# Altium footprint library lan_control.PcbLib: 23 footprints (part 2 of 2)
Each footprint in its own frame and in the unit in brackets; x right, y up, seen from the top. Pads: shape width x height; smd on the part's side, far side on the other; paste and mask are expansions set on the pad; w line width, h text height; cw(c..) or ccw(c..) is an arc to the next point about the centre after c.
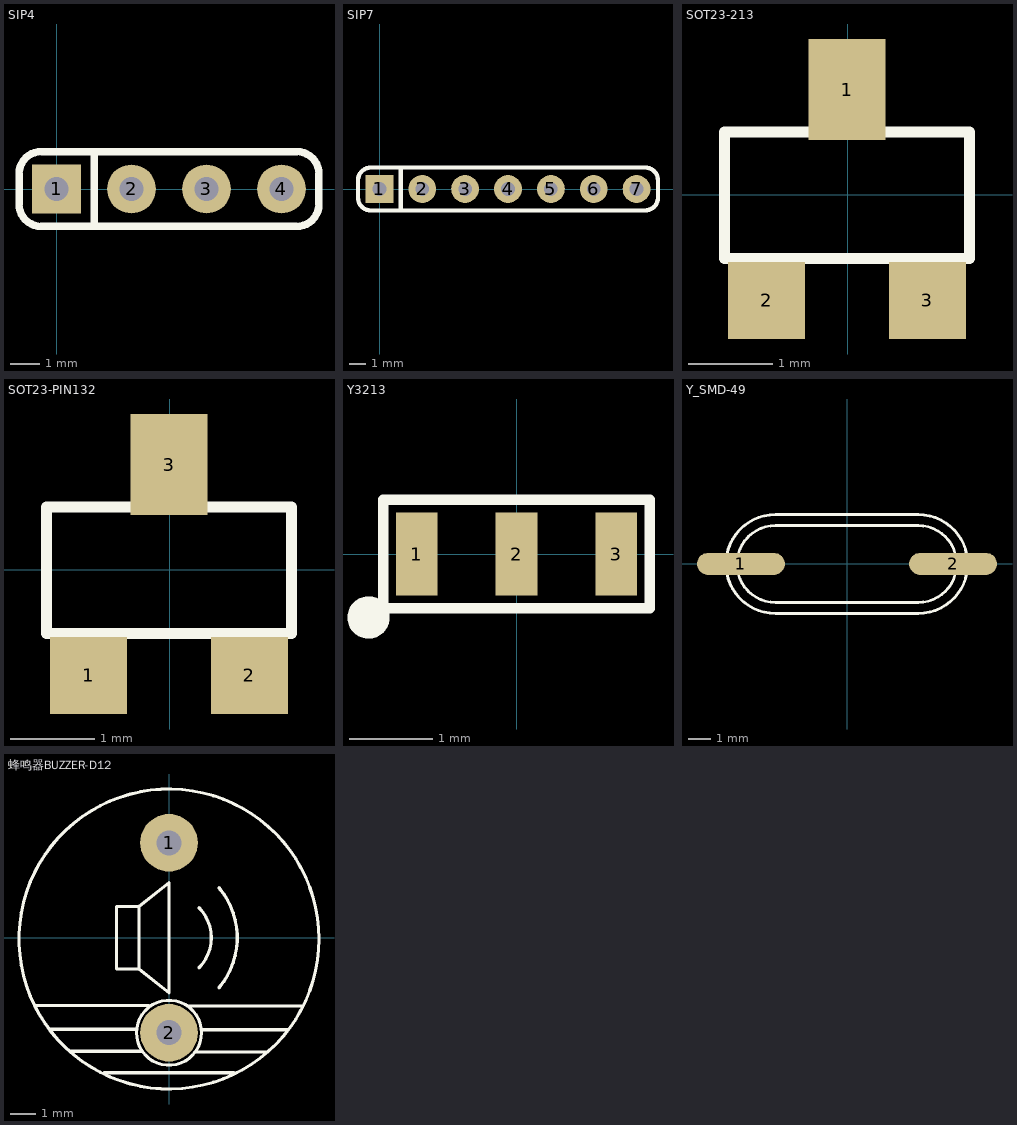
[diagram p1: the footprints below, top view; thin cyan lines are the x and y axes]

## SIP4 [mil]
height 236.22
pads (4):
  rect 65x65 hole 32: 1(-0.23,0.07)
  round 65 hole 32: 2(99.77,0.07) 3(199.77,0.07) 4(299.77,0.07)
Top Overlay:
  lines w10: 49.77,-49.93 49.77,50.07 ; -50.23,-19.79 ccw(c-20.37,-20.07) -20.65,-49.93 319.63,-49.93 ccw(c319.92,-20.07) 349.77,-20.36 349.77,19.92 ccw(c319.92,20.21) 320.2,50.07 -20.08,50.07 ccw(c-20.37,20.21) -50.23,20.49 -50.23,-19.79
3D body "1001-4.STEP": height 336.22, standoff -118.11, extent -50.22,-49.93 349.78,50.07

## SIP7 [mil]
height 236.22
pads (7):
  rect 65x65 hole 32: 1(-0.23,0.07)
  round 65 hole 32: 2(99.77,0.07) 3(199.77,0.07) 4(299.77,0.07) 5(399.77,0.07) 6(499.77,0.07) 7(599.77,0.07)
Top Overlay:
  lines w10: 49.77,-49.93 49.77,50.07 ; -50.23,-19.79 ccw(c-20.37,-20.07) -20.65,-49.93 619.63,-49.93 ccw(c619.92,-20.07) 649.77,-20.36 649.77,19.92 ccw(c619.92,20.21) 620.2,50.07 -20.08,50.07 ccw(c-20.37,20.21) -50.23,20.49 -50.23,-19.79
3D body "1001-7.STEP": height 336.22, standoff -118.11, extent -50.22,-49.93 649.78,50.07

## SOT23-213 [mil]
height 21.65
pads (3):
  rect 36x47.24 smd: 1(-0.36,48.99)
  rect 36x36 smd: 2(-37.86,-49.43) 3(37.14,-49.43)
Top Overlay:
  lines w5.12: -57.45,-29.75 56.73,-29.75 56.73,29.31 -57.45,29.31 -57.45,-29.75
3D body "SOT-23-3.STEP": height 47.24, standoff 0, extent -57.08,-55.11 57.1,55.13

## SOT23-PIN132 [mil]
height 236.22
pads (3):
  rect 36x36 smd: 1(-37.86,-49.43) 2(37.14,-49.43)
  rect 36x47.24 smd: 3(-0.36,48.99)
Top Overlay:
  lines w5.12: -57.45,-29.75 -57.45,29.31 56.73,29.31 56.73,-29.75 -57.45,-29.75
3D body "SOT-23-3.STEP": height 47.24, standoff 0, extent -57.08,-55.11 57.1,55.13

## Y3213 [mm]
height 6
pads (3):
  rect 0.5x1 smd: 1(-1.2,0) 2(0,0) 3(1.2,0)
Top Overlay:
  circle w0.254: c-1.778,-0.762 r0.127
  lines w0.127: -1.6,-0.65 1.6,-0.65 1.6,0.65 -1.6,0.65 -1.6,-0.65
3D body: height 0.8, standoff 0, extent -1.524,-0.635 1.524,0.635

## Y_SMD-49 [mm]
height 6
pads (2):
  oval 4x1 smd: 1(-4.841,0.003) 2(4.811,0.003)
Top Overlay:
  lines w0.127: -3.272,-2.251 cw(c-3.272,-0.001) -3.272,2.249 3.228,2.249 cw(c3.228,-0.001) 3.228,-2.251 -3.272,-2.251 ; -3.272,-1.751 cw(c-3.272,-0.001) -3.272,1.749 3.228,1.749 cw(c3.228,-0.001) 3.228,-1.751 -3.272,-1.751
3D body "XTAL.STEP": height 3.22, standoff -2.41, extent -5.342,-2.057 5.326,2.051

## 蜂鸣器BUZZER-D12 [mm]
height 0.55
pads (2):
  round 2.3 hole 1: 1(-0.013,3.8) 2(-0.013,-3.8)
Top Overlay:
  circle w0.127: c-0.013,-0.05 r6
  circle w0.127: c-0.013,-3.8 r1.3
  lines w0.127: -5.313,-2.714 -0.813,-2.714 ; -4.745,-3.659 -1.346,-3.659 ; -3.964,-4.54 -1.084,-4.54 ; -2.613,-5.4 2.587,-5.4 ; 0.787,-2.726 5.287,-2.726 ; 1.015,-4.568 3.894,-4.568 ; 1.187,-1.2 ccw(c-0.026,0) 1.187,1.2 ; 1.334,-3.683 4.721,-3.683 ; 1.987,-2.001 ccw(c-0.38,0) 1.987,2.001 ; -1.213,-1.25 -1.213,1.25 ; -1.213,-1.25 -2.113,-1.25 -2.113,1.25 -1.213,1.25 ; -1.213,-1.25 -0.013,-2.2 -0.013,2.2 -1.213,1.25